# EAGLE library part DLP-USB232M-G (library ftdi)
DLP-USB232M-G USB - SERIAL UART Interface Module Source: http://www.ftdichip.com/Documents/DataSheets/DLP/dlp-usb232m15.pdf
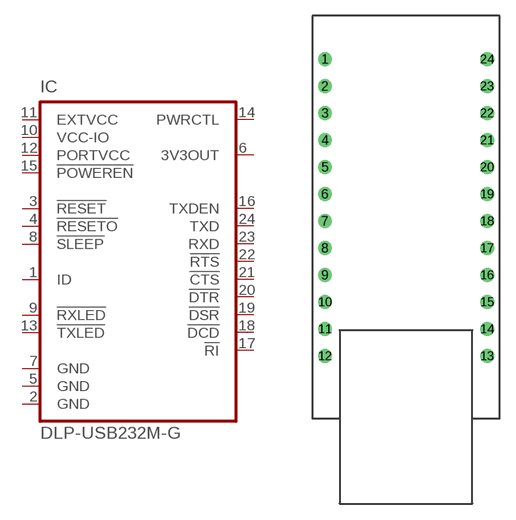
[diagram p1: symbol with the pads of DLP-USB232M; footprint DLP-USB232M]

Designator prefix IC

## DLP-USB232M-G (OC_FARNELL: unknown; OC_NEWARK: unknown)  [DLP-USB232M]
1  ID  in
2  GND  in
3  !RESET  in
4  !RESETO  in
5  GND  in
6  3V3OUT  in
7  GND  in
8  !SLEEP  in
9  !RXLED  in
10  VCC-IO  in
11  EXTVCC  in
12  PORTVCC  in
13  !TXLED  in
14  PWRCTL  in
15  !POWEREN  in
16  TXDEN  in
17  !RI  in
18  !DCD  in
19  !DSR  in
20  !DTR  in
21  !CTS  in
22  !RTS  in
23  RXD  in
24  TXD  in

## Footprint DLP-USB232M (pad centres in mm)
DLP-USB232M-G USB - SERIAL UART Interface Module Source: http://www.ftdichip.com/Documents/DataSheets/DLP/dlp-usb232m15.pdf
drill 0.8 pad 1.27: 1 -7.62,27.94; 2 -7.62,25.4; 3 -7.62,22.86; 4 -7.62,20.32; 5 -7.62,17.78; 6 -7.62,15.24; 7 -7.62,12.7; 8 -7.62,10.16; 9 -7.62,7.62; 10 -7.62,5.08; 11 -7.62,2.54; 12 -7.62,0; 13 7.62,0; 14 7.62,2.54; 15 7.62,5.08; 16 7.62,7.62; 17 7.62,10.16; 18 7.62,12.7; 19 7.62,15.24; 20 7.62,17.78; 21 7.62,20.32; 22 7.62,22.86; 23 7.62,25.4; 24 7.62,27.94